# Altium footprint library Connector_Molex.PcbLib: 815 footprints (part 5 of 51)
Each footprint in its own frame and in the unit in brackets; x right, y up, seen from the top. Pads: shape width x height; smd on the part's side, far side on the other; paste and mask are expansions set on the pad; w line width, h text height; cw(c..) or ccw(c..) is an arc to the next point about the centre after c.
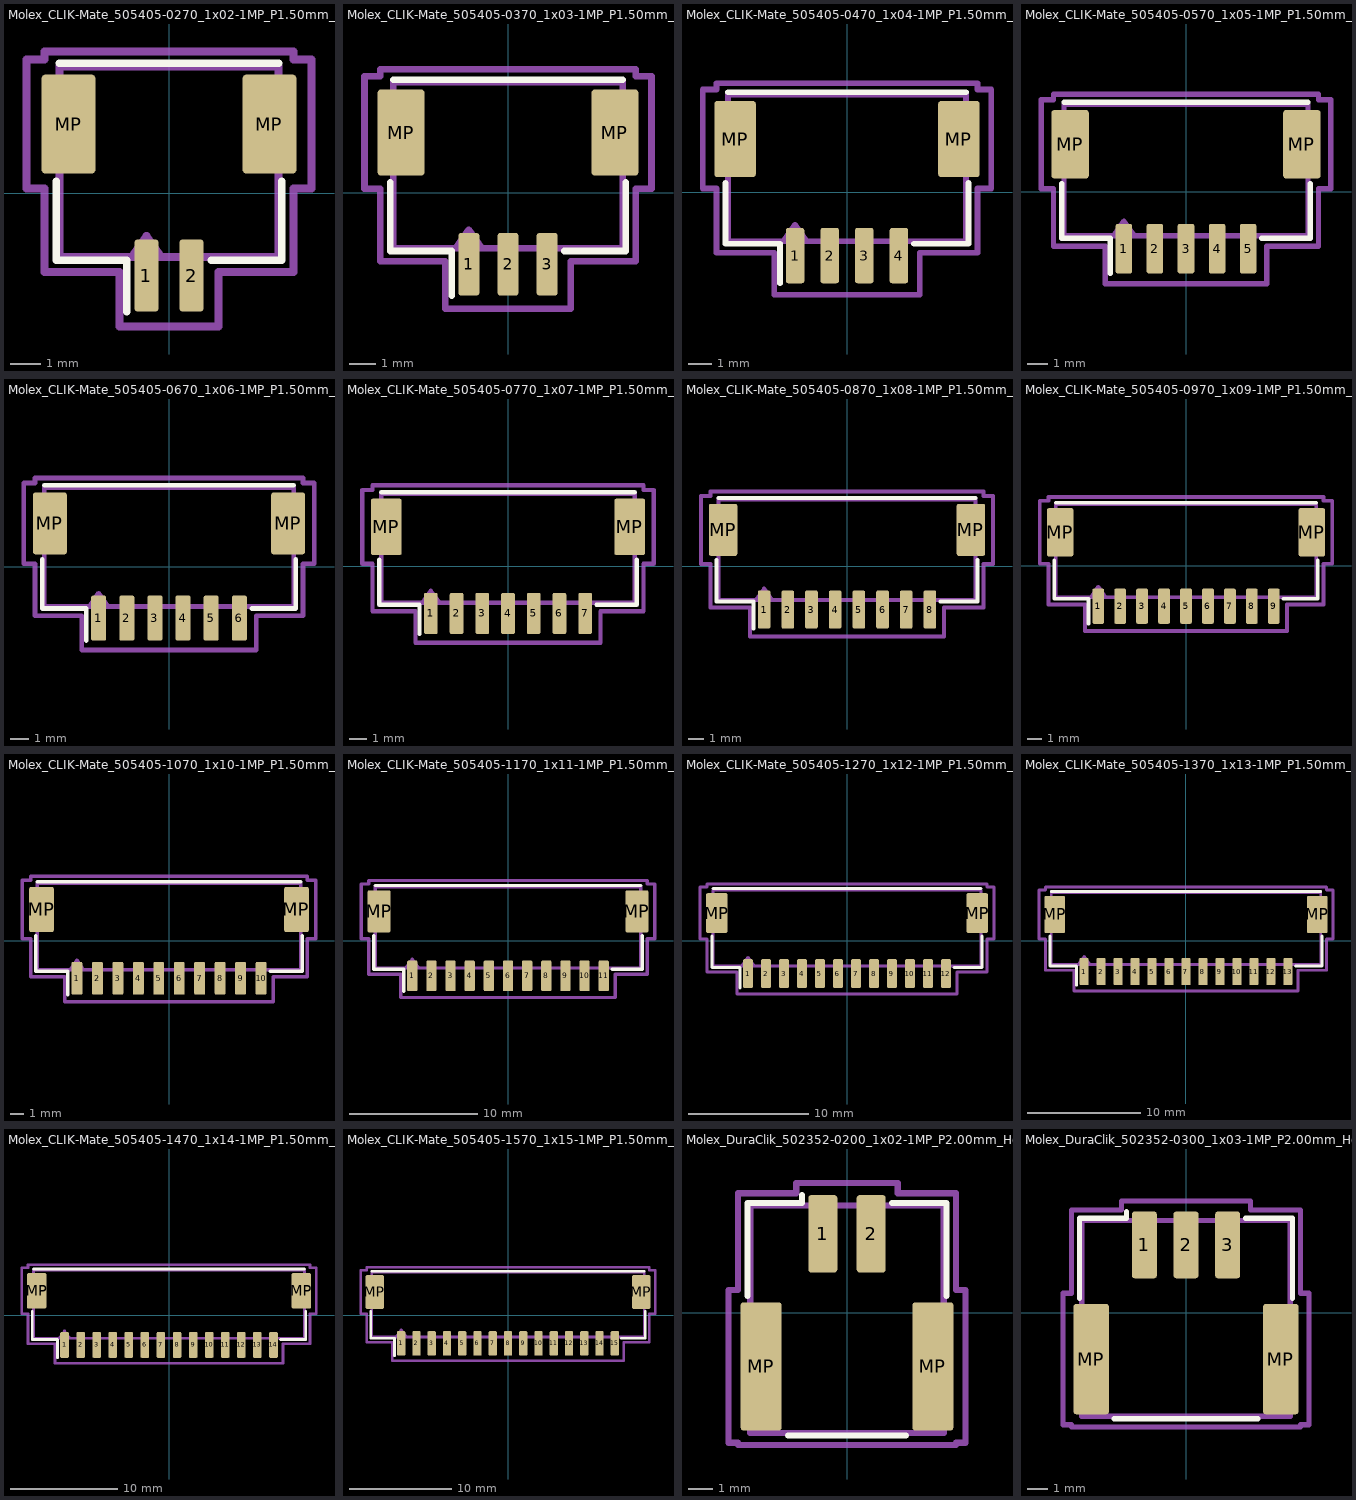
[diagram p4: the footprints below, top view; thin cyan lines are the x and y axes]

## Molex_CLIK-Mate_505405-0270_1x02-1MP_P1.50mm_Vertical [mm]
pads (4):
  rrect25% 0.8x2.4 smd: 1(-0.75,-2.75) 2(0.75,-2.75)
  rrect14% 1.8x3.3 smd: MP(-3.35,2.3) MP(3.35,2.3)
F.SilkS:
  lines w0.254: -3.76,0.39 -3.76,-2.24 -1.41,-2.24 -1.41,-3.95 ; -3.65,4.33 3.65,4.33 ; 1.41,-2.24 3.76,-2.24 3.76,0.39
Top Assembly:
  lines w0.254: -1.25,-2.13 -0.75,-1.423 -0.25,-2.13 ; -3.65,-2.13 3.65,-2.13 3.65,4.22 -3.65,4.22 -3.65,-2.13
  text "'.Designator'" at -4.047,0.21 h1
Top Courtyard:
  lines w0.254: -4.75,0.15 -4.15,0.15 -4.15,-2.63 -1.65,-2.63 -1.65,-4.45 1.65,-4.45 1.65,-2.63 4.15,-2.63 4.15,0.15 4.75,0.15 4.75,4.45 4.15,4.45 4.15,4.72 -4.15,4.72 -4.15,4.45 -4.75,4.45 -4.75,0.15
Top Designator:
  text ".Designator" at -7.618,-0.373 h1.52

## Molex_CLIK-Mate_505405-0370_1x03-1MP_P1.50mm_Vertical [mm]
pads (5):
  rrect25% 0.8x2.4 smd: 1(-1.5,-2.75) 2(0,-2.75) 3(1.5,-2.75)
  rrect14% 1.8x3.3 smd: MP(-4.1,2.3) MP(4.1,2.3)
F.SilkS:
  lines w0.254: -4.51,0.39 -4.51,-2.24 -2.16,-2.24 -2.16,-3.95 ; -4.4,4.33 4.4,4.33 ; 2.16,-2.24 4.51,-2.24 4.51,0.39
Top Assembly:
  lines w0.254: -2,-2.13 -1.5,-1.423 -1,-2.13 ; -4.4,-2.13 4.4,-2.13 4.4,4.22 -4.4,4.22 -4.4,-2.13
  text "'.Designator'" at -4.047,0.21 h1
Top Courtyard:
  lines w0.254: -5.5,0.15 -4.9,0.15 -4.9,-2.63 -2.4,-2.63 -2.4,-4.45 2.4,-4.45 2.4,-2.63 4.9,-2.63 4.9,0.15 5.5,0.15 5.5,4.45 4.9,4.45 4.9,4.72 -4.9,4.72 -4.9,4.45 -5.5,4.45 -5.5,0.15
Top Designator:
  text ".Designator" at -7.618,-0.373 h1.52

## Molex_CLIK-Mate_505405-0470_1x04-1MP_P1.50mm_Vertical [mm]
pads (6):
  rrect25% 0.8x2.4 smd: 1(-2.25,-2.75) 2(-0.75,-2.75) 3(0.75,-2.75) 4(2.25,-2.75)
  rrect14% 1.8x3.3 smd: MP(-4.85,2.3) MP(4.85,2.3)
F.SilkS:
  lines w0.254: -5.26,0.39 -5.26,-2.24 -2.91,-2.24 -2.91,-3.95 ; -5.15,4.33 5.15,4.33 ; 2.91,-2.24 5.26,-2.24 5.26,0.39
Top Assembly:
  lines w0.254: -2.75,-2.13 -2.25,-1.423 -1.75,-2.13 ; -5.15,-2.13 5.15,-2.13 5.15,4.22 -5.15,4.22 -5.15,-2.13
  text "'.Designator'" at -4.047,0.21 h1
Top Courtyard:
  lines w0.254: -6.25,0.15 -5.65,0.15 -5.65,-2.63 -3.15,-2.63 -3.15,-4.45 3.15,-4.45 3.15,-2.63 5.65,-2.63 5.65,0.15 6.25,0.15 6.25,4.45 5.65,4.45 5.65,4.72 -5.65,4.72 -5.65,4.45 -6.25,4.45 -6.25,0.15
Top Designator:
  text ".Designator" at -7.618,-0.373 h1.52

## Molex_CLIK-Mate_505405-0570_1x05-1MP_P1.50mm_Vertical [mm]
pads (7):
  rrect25% 0.8x2.4 smd: 1(-3,-2.75) 2(-1.5,-2.75) 3(0,-2.75) 4(1.5,-2.75) 5(3,-2.75)
  rrect14% 1.8x3.3 smd: MP(-5.6,2.3) MP(5.6,2.3)
F.SilkS:
  lines w0.254: -6.01,0.39 -6.01,-2.24 -3.66,-2.24 -3.66,-3.95 ; -5.9,4.33 5.9,4.33 ; 3.66,-2.24 6.01,-2.24 6.01,0.39
Top Assembly:
  lines w0.254: -3.5,-2.13 -3,-1.423 -2.5,-2.13 ; -5.9,-2.13 5.9,-2.13 5.9,4.22 -5.9,4.22 -5.9,-2.13
  text "'.Designator'" at -4.047,0.21 h1
Top Courtyard:
  lines w0.254: -7,0.15 -6.4,0.15 -6.4,-2.63 -3.9,-2.63 -3.9,-4.45 3.9,-4.45 3.9,-2.63 6.4,-2.63 6.4,0.15 7,0.15 7,4.45 6.4,4.45 6.4,4.72 -6.4,4.72 -6.4,4.45 -7,4.45 -7,0.15
Top Designator:
  text ".Designator" at -7.618,-0.373 h1.52

## Molex_CLIK-Mate_505405-0670_1x06-1MP_P1.50mm_Vertical [mm]
pads (8):
  rrect25% 0.8x2.4 smd: 1(-3.75,-2.75) 2(-2.25,-2.75) 3(-0.75,-2.75) 4(0.75,-2.75) 5(2.25,-2.75) 6(3.75,-2.75)
  rrect14% 1.8x3.3 smd: MP(-6.35,2.3) MP(6.35,2.3)
F.SilkS:
  lines w0.254: -6.76,0.39 -6.76,-2.24 -4.41,-2.24 -4.41,-3.95 ; -6.65,4.33 6.65,4.33 ; 4.41,-2.24 6.76,-2.24 6.76,0.39
Top Assembly:
  lines w0.254: -4.25,-2.13 -3.75,-1.423 -3.25,-2.13 ; -6.65,-2.13 6.65,-2.13 6.65,4.22 -6.65,4.22 -6.65,-2.13
  text "'.Designator'" at -4.047,0.21 h1
Top Courtyard:
  lines w0.254: -7.75,0.15 -7.15,0.15 -7.15,-2.63 -4.65,-2.63 -4.65,-4.45 4.65,-4.45 4.65,-2.63 7.15,-2.63 7.15,0.15 7.75,0.15 7.75,4.45 7.15,4.45 7.15,4.72 -7.15,4.72 -7.15,4.45 -7.75,4.45 -7.75,0.15
Top Designator:
  text ".Designator" at -7.618,-0.373 h1.52

## Molex_CLIK-Mate_505405-0770_1x07-1MP_P1.50mm_Vertical [mm]
pads (9):
  rrect25% 0.8x2.4 smd: 1(-4.5,-2.75) 2(-3,-2.75) 3(-1.5,-2.75) 4(0,-2.75) 5(1.5,-2.75) 6(3,-2.75) 7(4.5,-2.75)
  rrect14% 1.8x3.3 smd: MP(-7.1,2.3) MP(7.1,2.3)
F.SilkS:
  lines w0.254: -7.51,0.39 -7.51,-2.24 -5.16,-2.24 -5.16,-3.95 ; -7.4,4.33 7.4,4.33 ; 5.16,-2.24 7.51,-2.24 7.51,0.39
Top Assembly:
  lines w0.254: -5,-2.13 -4.5,-1.423 -4,-2.13 ; -7.4,-2.13 7.4,-2.13 7.4,4.22 -7.4,4.22 -7.4,-2.13
  text "'.Designator'" at -4.047,0.21 h1
Top Courtyard:
  lines w0.254: -8.5,0.15 -7.9,0.15 -7.9,-2.63 -5.4,-2.63 -5.4,-4.45 5.4,-4.45 5.4,-2.63 7.9,-2.63 7.9,0.15 8.5,0.15 8.5,4.45 7.9,4.45 7.9,4.72 -7.9,4.72 -7.9,4.45 -8.5,4.45 -8.5,0.15
Top Designator:
  text ".Designator" at -7.618,-0.373 h1.52

## Molex_CLIK-Mate_505405-0870_1x08-1MP_P1.50mm_Vertical [mm]
pads (10):
  rrect25% 0.8x2.4 smd: 1(-5.25,-2.75) 2(-3.75,-2.75) 3(-2.25,-2.75) 4(-0.75,-2.75) 5(0.75,-2.75) 6(2.25,-2.75) 7(3.75,-2.75) 8(5.25,-2.75)
  rrect14% 1.8x3.3 smd: MP(-7.85,2.3) MP(7.85,2.3)
F.SilkS:
  lines w0.254: -8.26,0.39 -8.26,-2.24 -5.91,-2.24 -5.91,-3.95 ; -8.15,4.33 8.15,4.33 ; 5.91,-2.24 8.26,-2.24 8.26,0.39
Top Assembly:
  lines w0.254: -5.75,-2.13 -5.25,-1.423 -4.75,-2.13 ; -8.15,-2.13 8.15,-2.13 8.15,4.22 -8.15,4.22 -8.15,-2.13
  text "'.Designator'" at -4.047,0.21 h1
Top Courtyard:
  lines w0.254: -9.25,0.15 -8.65,0.15 -8.65,-2.63 -6.15,-2.63 -6.15,-4.45 6.15,-4.45 6.15,-2.63 8.65,-2.63 8.65,0.15 9.25,0.15 9.25,4.45 8.65,4.45 8.65,4.72 -8.65,4.72 -8.65,4.45 -9.25,4.45 -9.25,0.15
Top Designator:
  text ".Designator" at -7.618,-0.373 h1.52

## Molex_CLIK-Mate_505405-0970_1x09-1MP_P1.50mm_Vertical [mm]
pads (11):
  rrect25% 0.8x2.4 smd: 1(-6,-2.75) 2(-4.5,-2.75) 3(-3,-2.75) 4(-1.5,-2.75) 5(0,-2.75) 6(1.5,-2.75) 7(3,-2.75) 8(4.5,-2.75) 9(6,-2.75)
  rrect14% 1.8x3.3 smd: MP(-8.6,2.3) MP(8.6,2.3)
F.SilkS:
  lines w0.254: -9.01,0.39 -9.01,-2.24 -6.66,-2.24 -6.66,-3.95 ; -8.9,4.33 8.9,4.33 ; 6.66,-2.24 9.01,-2.24 9.01,0.39
Top Assembly:
  lines w0.254: -6.5,-2.13 -6,-1.423 -5.5,-2.13 ; -8.9,-2.13 8.9,-2.13 8.9,4.22 -8.9,4.22 -8.9,-2.13
  text "'.Designator'" at -4.047,0.21 h1
Top Courtyard:
  lines w0.254: -10,0.15 -9.4,0.15 -9.4,-2.63 -6.9,-2.63 -6.9,-4.45 6.9,-4.45 6.9,-2.63 9.4,-2.63 9.4,0.15 10,0.15 10,4.45 9.4,4.45 9.4,4.72 -9.4,4.72 -9.4,4.45 -10,4.45 -10,0.15
Top Designator:
  text ".Designator" at -7.618,-0.373 h1.52

## Molex_CLIK-Mate_505405-1070_1x10-1MP_P1.50mm_Vertical [mm]
pads (12):
  rrect25% 0.8x2.4 smd: 1(-6.75,-2.75) 2(-5.25,-2.75) 3(-3.75,-2.75) 4(-2.25,-2.75) 5(-0.75,-2.75) 6(0.75,-2.75) 7(2.25,-2.75) 8(3.75,-2.75) 9(5.25,-2.75) 10(6.75,-2.75)
  rrect14% 1.8x3.3 smd: MP(-9.35,2.3) MP(9.35,2.3)
F.SilkS:
  lines w0.254: -9.76,0.39 -9.76,-2.24 -7.41,-2.24 -7.41,-3.95 ; -9.65,4.33 9.65,4.33 ; 7.41,-2.24 9.76,-2.24 9.76,0.39
Top Assembly:
  lines w0.254: -7.25,-2.13 -6.75,-1.423 -6.25,-2.13 ; -9.65,-2.13 9.65,-2.13 9.65,4.22 -9.65,4.22 -9.65,-2.13
  text "'.Designator'" at -4.047,0.21 h1
Top Courtyard:
  lines w0.254: -10.75,0.15 -10.15,0.15 -10.15,-2.63 -7.65,-2.63 -7.65,-4.45 7.65,-4.45 7.65,-2.63 10.15,-2.63 10.15,0.15 10.75,0.15 10.75,4.45 10.15,4.45 10.15,4.72 -10.15,4.72 -10.15,4.45 -10.75,4.45 -10.75,0.15
Top Designator:
  text ".Designator" at -7.618,-0.373 h1.52

## Molex_CLIK-Mate_505405-1170_1x11-1MP_P1.50mm_Vertical [mm]
pads (13):
  rrect25% 0.8x2.4 smd: 1(-7.5,-2.75) 2(-6,-2.75) 3(-4.5,-2.75) 4(-3,-2.75) 5(-1.5,-2.75) 6(0,-2.75) 7(1.5,-2.75) 8(3,-2.75) 9(4.5,-2.75) 10(6,-2.75) 11(7.5,-2.75)
  rrect14% 1.8x3.3 smd: MP(-10.1,2.3) MP(10.1,2.3)
F.SilkS:
  lines w0.254: -10.51,0.39 -10.51,-2.24 -8.16,-2.24 -8.16,-3.95 ; -10.4,4.33 10.4,4.33 ; 8.16,-2.24 10.51,-2.24 10.51,0.39
Top Assembly:
  lines w0.254: -8,-2.13 -7.5,-1.423 -7,-2.13 ; -10.4,-2.13 10.4,-2.13 10.4,4.22 -10.4,4.22 -10.4,-2.13
  text "'.Designator'" at -4.047,0.21 h1
Top Courtyard:
  lines w0.254: -11.5,0.15 -10.9,0.15 -10.9,-2.63 -8.4,-2.63 -8.4,-4.45 8.4,-4.45 8.4,-2.63 10.9,-2.63 10.9,0.15 11.5,0.15 11.5,4.45 10.9,4.45 10.9,4.72 -10.9,4.72 -10.9,4.45 -11.5,4.45 -11.5,0.15
Top Designator:
  text ".Designator" at -7.618,-0.373 h1.52

## Molex_CLIK-Mate_505405-1270_1x12-1MP_P1.50mm_Vertical [mm]
pads (14):
  rrect25% 0.8x2.4 smd: 1(-8.25,-2.75) 2(-6.75,-2.75) 3(-5.25,-2.75) 4(-3.75,-2.75) 5(-2.25,-2.75) 6(-0.75,-2.75) 7(0.75,-2.75) 8(2.25,-2.75) 9(3.75,-2.75) 10(5.25,-2.75) 11(6.75,-2.75) 12(8.25,-2.75)
  rrect14% 1.8x3.3 smd: MP(-10.85,2.3) MP(10.85,2.3)
F.SilkS:
  lines w0.254: -11.26,0.39 -11.26,-2.24 -8.91,-2.24 -8.91,-3.95 ; -11.15,4.33 11.15,4.33 ; 8.91,-2.24 11.26,-2.24 11.26,0.39
Top Assembly:
  lines w0.254: -8.75,-2.13 -8.25,-1.423 -7.75,-2.13 ; -11.15,-2.13 11.15,-2.13 11.15,4.22 -11.15,4.22 -11.15,-2.13
  text "'.Designator'" at -4.047,0.21 h1
Top Courtyard:
  lines w0.254: -12.25,0.15 -11.65,0.15 -11.65,-2.63 -9.15,-2.63 -9.15,-4.45 9.15,-4.45 9.15,-2.63 11.65,-2.63 11.65,0.15 12.25,0.15 12.25,4.45 11.65,4.45 11.65,4.72 -11.65,4.72 -11.65,4.45 -12.25,4.45 -12.25,0.15
Top Designator:
  text ".Designator" at -7.618,-0.373 h1.52

## Molex_CLIK-Mate_505405-1370_1x13-1MP_P1.50mm_Vertical [mm]
pads (15):
  rrect25% 0.8x2.4 smd: 1(-9,-2.75) 2(-7.5,-2.75) 3(-6,-2.75) 4(-4.5,-2.75) 5(-3,-2.75) 6(-1.5,-2.75) 7(0,-2.75) 8(1.5,-2.75) 9(3,-2.75) 10(4.5,-2.75) 11(6,-2.75) 12(7.5,-2.75) 13(9,-2.75)
  rrect14% 1.8x3.3 smd: MP(-11.6,2.3) MP(11.6,2.3)
F.SilkS:
  lines w0.254: -12.01,0.39 -12.01,-2.24 -9.66,-2.24 -9.66,-3.95 ; -11.9,4.33 11.9,4.33 ; 9.66,-2.24 12.01,-2.24 12.01,0.39
Top Assembly:
  lines w0.254: -9.5,-2.13 -9,-1.423 -8.5,-2.13 ; -11.9,-2.13 11.9,-2.13 11.9,4.22 -11.9,4.22 -11.9,-2.13
  text "'.Designator'" at -4.047,0.21 h1
Top Courtyard:
  lines w0.254: -13,0.15 -12.4,0.15 -12.4,-2.63 -9.9,-2.63 -9.9,-4.45 9.9,-4.45 9.9,-2.63 12.4,-2.63 12.4,0.15 13,0.15 13,4.45 12.4,4.45 12.4,4.72 -12.4,4.72 -12.4,4.45 -13,4.45 -13,0.15
Top Designator:
  text ".Designator" at -7.618,-0.373 h1.52

## Molex_CLIK-Mate_505405-1470_1x14-1MP_P1.50mm_Vertical [mm]
pads (16):
  rrect25% 0.8x2.4 smd: 1(-9.75,-2.75) 2(-8.25,-2.75) 3(-6.75,-2.75) 4(-5.25,-2.75) 5(-3.75,-2.75) 6(-2.25,-2.75) 7(-0.75,-2.75) 8(0.75,-2.75) 9(2.25,-2.75) 10(3.75,-2.75) 11(5.25,-2.75) 12(6.75,-2.75) 13(8.25,-2.75) 14(9.75,-2.75)
  rrect14% 1.8x3.3 smd: MP(-12.35,2.3) MP(12.35,2.3)
F.SilkS:
  lines w0.254: -12.76,0.39 -12.76,-2.24 -10.41,-2.24 -10.41,-3.95 ; -12.65,4.33 12.65,4.33 ; 10.41,-2.24 12.76,-2.24 12.76,0.39
Top Assembly:
  lines w0.254: -10.25,-2.13 -9.75,-1.423 -9.25,-2.13 ; -12.65,-2.13 12.65,-2.13 12.65,4.22 -12.65,4.22 -12.65,-2.13
  text "'.Designator'" at -4.047,0.21 h1
Top Courtyard:
  lines w0.254: -13.75,0.15 -13.15,0.15 -13.15,-2.63 -10.65,-2.63 -10.65,-4.45 10.65,-4.45 10.65,-2.63 13.15,-2.63 13.15,0.15 13.75,0.15 13.75,4.45 13.15,4.45 13.15,4.72 -13.15,4.72 -13.15,4.45 -13.75,4.45 -13.75,0.15
Top Designator:
  text ".Designator" at -7.618,-0.373 h1.52

## Molex_CLIK-Mate_505405-1570_1x15-1MP_P1.50mm_Vertical [mm]
pads (17):
  rrect25% 0.8x2.4 smd: 1(-10.5,-2.75) 2(-9,-2.75) 3(-7.5,-2.75) 4(-6,-2.75) 5(-4.5,-2.75) 6(-3,-2.75) 7(-1.5,-2.75) 8(0,-2.75) 9(1.5,-2.75) 10(3,-2.75) 11(4.5,-2.75) 12(6,-2.75) 13(7.5,-2.75) 14(9,-2.75) 15(10.5,-2.75)
  rrect14% 1.8x3.3 smd: MP(-13.1,2.3) MP(13.1,2.3)
F.SilkS:
  lines w0.254: -13.51,0.39 -13.51,-2.24 -11.16,-2.24 -11.16,-3.95 ; -13.4,4.33 13.4,4.33 ; 11.16,-2.24 13.51,-2.24 13.51,0.39
Top Assembly:
  lines w0.254: -11,-2.13 -10.5,-1.423 -10,-2.13 ; -13.4,-2.13 13.4,-2.13 13.4,4.22 -13.4,4.22 -13.4,-2.13
  text "'.Designator'" at -4.047,0.21 h1
Top Courtyard:
  lines w0.254: -14.5,0.15 -13.9,0.15 -13.9,-2.63 -11.4,-2.63 -11.4,-4.45 11.4,-4.45 11.4,-2.63 13.9,-2.63 13.9,0.15 14.5,0.15 14.5,4.45 13.9,4.45 13.9,4.72 -13.9,4.72 -13.9,4.45 -14.5,4.45 -14.5,0.15
Top Designator:
  text ".Designator" at -7.618,-0.373 h1.52

## Molex_DuraClik_502352-0200_1x02-1MP_P2.00mm_Horizontal [mm]
pads (4):
  rrect21% 1.2x3.2 smd: 1(-1,3.265) 2(1,3.265)
  rrect15% 1.7x5.3 smd: MP(-3.55,-2.215) MP(3.55,-2.215)
F.SilkS:
  lines w0.254: -4.11,0.695 -4.11,4.545 -1.86,4.545 -1.86,4.865 ; -2.44,-5.075 2.44,-5.075 ; 1.86,4.545 4.11,4.545 4.11,0.695
Top Assembly:
  lines w0.254: -1.5,4.435 -1,3.728 -0.5,4.435 ; -4,-4.965 4,-4.965 4,4.435 -4,4.435 -4,-4.965
  text "'.Designator'" at -4.047,-1.1 h1
Top Courtyard:
  lines w0.254: -4.9,-5.37 -4.5,-5.37 -4.5,-5.47 4.5,-5.47 4.5,-5.37 4.9,-5.37 4.9,0.94 4.5,0.94 4.5,4.94 2.1,4.94 2.1,5.37 -2.1,5.37 -2.1,4.94 -4.5,4.94 -4.5,0.94 -4.9,0.94 -4.9,-5.37
Top Designator:
  text ".Designator" at -7.618,-0.558 h1.52

## Molex_DuraClik_502352-0300_1x03-1MP_P2.00mm_Horizontal [mm]
pads (5):
  rrect21% 1.2x3.2 smd: 1(-2,3.265) 2(0,3.265) 3(2,3.265)
  rrect15% 1.7x5.3 smd: MP(-4.55,-2.215) MP(4.55,-2.215)
F.SilkS:
  lines w0.254: -5.11,0.695 -5.11,4.545 -2.86,4.545 -2.86,4.865 ; -3.44,-5.075 3.44,-5.075 ; 2.86,4.545 5.11,4.545 5.11,0.695
Top Assembly:
  lines w0.254: -2.5,4.435 -2,3.728 -1.5,4.435 ; -5,-4.965 5,-4.965 5,4.435 -5,4.435 -5,-4.965
  text "'.Designator'" at -4.047,-1.1 h1
Top Courtyard:
  lines w0.254: -5.9,-5.37 -5.5,-5.37 -5.5,-5.47 5.5,-5.47 5.5,-5.37 5.9,-5.37 5.9,0.94 5.5,0.94 5.5,4.94 3.1,4.94 3.1,5.37 -3.1,5.37 -3.1,4.94 -5.5,4.94 -5.5,0.94 -5.9,0.94 -5.9,-5.37
Top Designator:
  text ".Designator" at -7.618,-0.558 h1.52